# EAGLE library part JP6PINISP (library ProgrammingHeaders)
JUMPER
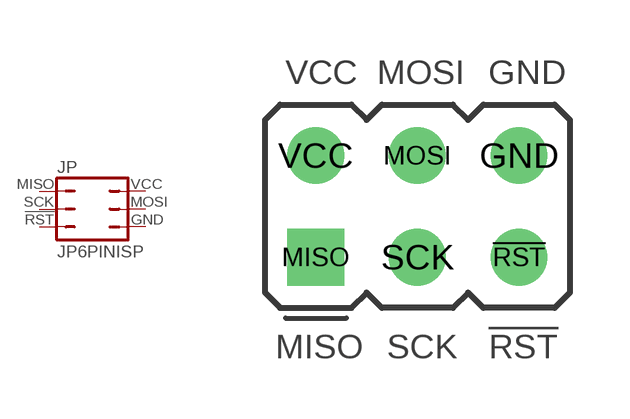
[diagram p0: symbol with the pads of JP6PINISP; footprint JP6PINISP]

Designator prefix JP

## JP6PINISP  [JP6PINISP]
!RST  5  pas
GND  6  pas
MISO  1  pas
MOSI  4  pas
SCK  3  pas
VCC  2  pas

## Footprint JP6PINISP (pad centres in mm)
JUMPER
drill 0.914: !RST 2.54,-1.27; GND 2.54,1.27; MOSI 0,1.27; SCK 0,-1.27; VCC -2.54,1.27
drill 0.914 square: MISO -2.54,-1.27